# Altium integrated library WS-SLTV_rev15a.intlib: 1 symbol
Pins are listed as number, name and electrical type; pins without a type are passive.

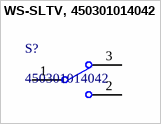
[diagram p0: symbol WS-SLTV, 450301014042]

## WS-SLTV, 450301014042
designator S?, comment 450301014042
WS-SLTV 10x2.5 mm THT; Manufacturer: Wurth Elektronik; partNo: 450301014042; ComponentLink1Description: Manufacturer; ComponentLink1URL: http://www.we-online.de; Created by: Baojun Chen; Created Date: Dec.2015; ComponentLink2Description: Datasheet; ComponentLink2URL: http://katalog.we-online.de/em/datasheet/450301014042.pdf
footprint 450301014042 (10mm*2.5mm. SPDT, ON-ON, 2.54mm, horizontal type, THT, bulk)
pins: 1, 2, 3